# Altium footprint library ZLG_CandleLight_F072.PcbLib: 3 footprints
Each footprint in its own frame and in the unit in brackets; x right, y up, seen from the top. Pads: shape width x height; smd on the part's side, far side on the other; paste and mask are expansions set on the pad; w line width, h text height; cw(c..) or ccw(c..) is an arc to the next point about the centre after c.
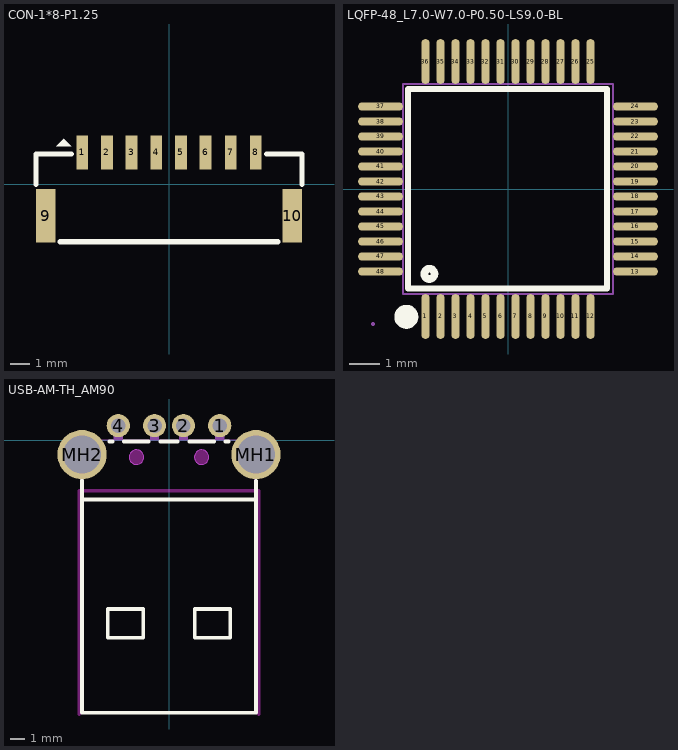
[diagram p0: the footprints below, top view; thin cyan lines are the x and y axes]

## CON-1*8-P1.25 [mm]
pads (10):
  rect 0.6x1.7 smd paste+0 mask+0.05: 1(-4.395,1.6) 2(-3.145,1.6) 3(-1.895,1.6) 4(-0.645,1.6) 5(0.605,1.6) 6(1.855,1.6) 7(3.125,1.6) 8(4.395,1.6)
  rect 1x2.7 smd paste+0 mask+0.05: 9(-6.245,-1.6) 10(6.245,-1.6)
Top Overlay:
  region: -5.334,2.286 -5.715,1.905 -4.953,1.905
  lines w0.254: -6.731,-0.019 -6.731,1.524 -4.926,1.524 ; -5.514,-2.921 5.514,-2.921 ; 4.926,1.524 6.731,1.524 6.731,-0.019
3D body "A12514WR-S-08P.SLDPRT": height 4.26, standoff 0, extent -6.625,-2.731 6.625,2.129

## LQFP-48_L7.0-W7.0-P0.50-LS9.0-BL [mm]
pads (48):
  oval 0.27x1.5 smd paste+0 mask+0.05: 1(-2.75,-4.25) 2(-2.25,-4.25) 3(-1.75,-4.25) 4(-1.25,-4.25) 5(-0.75,-4.25) 6(-0.25,-4.25) 7(0.25,-4.25) 8(0.75,-4.25) 9(1.25,-4.25) 10(1.75,-4.25) 11(2.25,-4.25) 12(2.75,-4.25) 25(2.75,4.25) 26(2.25,4.25) 27(1.75,4.25) 28(1.25,4.25) 29(0.75,4.25) 30(0.25,4.25) 31(-0.25,4.25) 32(-0.75,4.25) 33(-1.25,4.25) 34(-1.75,4.25) 35(-2.25,4.25) 36(-2.75,4.25)
  oval 1.5x0.27 smd paste+0 mask+0.05: 13(4.25,-2.75) 14(4.25,-2.25) 15(4.25,-1.75) 16(4.25,-1.25) 17(4.25,-0.75) 18(4.25,-0.25) 19(4.25,0.25) 20(4.25,0.75) 21(4.25,1.25) 22(4.25,1.75) 23(4.25,2.25) 24(4.25,2.75) 37(-4.25,2.75) 38(-4.25,2.25) 39(-4.25,1.75) 40(-4.25,1.25) 41(-4.25,0.75) 42(-4.25,0.25) 43(-4.25,-0.25) 44(-4.25,-0.75) 45(-4.25,-1.25) 46(-4.25,-1.75) 47(-4.25,-2.25) 48(-4.25,-2.75)
Top Overlay:
  circle w0.254: c-2.62,-2.83 r0.17
  lines w0.2: -2.896,3.34 3.302,3.34 3.302,-3.315 -3.327,-3.315 -3.327,3.34 -2.565,3.34
  lines w0.4: -3.39,-4.06 ccw(c-3.389,-4.26) -3.387,-4.06
Mechanical 15:
  drawing of 101 lines, arcs and shapes, not listed
3D body "STM32F072.STEP": height 1.45, standoff 0, extent -4.5,-4.5 4.5,4.5

## USB-AM-TH_AM90 [mm]
pads (6):
  round 1.6 hole 1: 1(3.5,1) 2(1,1) 3(-1,1) 4(-3.5,1)
  round 3.4 hole 2.6: MH1(6,-1) MH2(-6,-1)
Top Overlay:
  lines w0.254: -6.007,-4.098 6.006,-4.098 ; -6.007,-2.792 -6.007,-18.812 6.006,-18.812 6.006,-2.798 ; -4.117,-0.098 -3.899,-0.098 ; -3.102,-0.098 -1.398,-0.098 ; -0.602,-0.098 0.601,-0.098 ; 1.398,-0.098 3.102,-0.098 ; 3.898,-0.098 4.116,-0.098 ; -4.216,-13.649 -1.769,-13.649 -1.769,-11.649 -4.216,-11.649 -4.216,-13.649 ; 1.768,-13.649 4.23,-13.649 4.23,-11.649 1.768,-11.649 1.768,-13.649
Keep-Out Layer:
  board cut-out: 2.75,-1.175 2.75,-1.274 2.674,-1.458 2.533,-1.599 2.349,-1.675 2.15,-1.675 1.967,-1.599 1.826,-1.458 1.75,-1.274 1.75,-1.175 1.75,-1.076 1.826,-0.892 1.967,-0.751 2.15,-0.675 2.349,-0.675 2.533,-0.751 2.674,-0.892 2.75,-1.076
  board cut-out: -1.75,-1.175 -1.75,-1.274 -1.826,-1.458 -1.967,-1.599 -2.151,-1.675 -2.35,-1.675 -2.533,-1.599 -2.674,-1.458 -2.75,-1.274 -2.75,-1.175 -2.75,-1.076 -2.674,-0.892 -2.533,-0.751 -2.35,-0.675 -2.151,-0.675 -1.967,-0.751 -1.826,-0.892 -1.75,-1.076
Keep-Out Layer:
  circle w0.005: c2.25,-1.175 r0.5
  circle w0.005: c-2.25,-1.175 r0.5
  region: 2.75,-1.175 2.75,-1.274 2.674,-1.458 2.533,-1.599 2.349,-1.675 2.15,-1.675 1.967,-1.599 1.826,-1.458 1.75,-1.274 1.75,-1.175 1.75,-1.076 1.826,-0.892 1.967,-0.751 2.15,-0.675 2.349,-0.675 2.533,-0.751 2.674,-0.892 2.75,-1.076
  region: -1.75,-1.175 -1.75,-1.274 -1.826,-1.458 -1.967,-1.599 -2.151,-1.675 -2.35,-1.675 -2.533,-1.599 -2.674,-1.458 -2.75,-1.274 -2.75,-1.175 -2.75,-1.076 -2.674,-0.892 -2.533,-0.751 -2.35,-0.675 -2.151,-0.675 -1.967,-0.751 -1.826,-0.892 -1.75,-1.076
  lines w0.254: -6.2,-3.5 6.2,-3.5 ; -6.2,-3.5 -6.2,-18.9 -6.2,-3.5 ; -6.2,-3.5 6.2,-3.5 ; 6.2,-3.5 6.2,-18.9 6.2,-3.5
Mechanical 1:
  circle w0.005: c2.25,-1.175 r0.5
  circle w0.005: c-2.25,-1.175 r0.5
Mechanical 15:
  region: -6.068,-2.025 -6.068,0.025 -5.868,0.025 -5.868,-2.025
  region: 5.732,-2.025 5.732,0.025 5.932,0.025 5.932,-2.025
  region: -3.8,0.95 -3.8,1.05 -3.2,1.05 -3.2,0.95
  region: -1.3,0.95 -1.3,1.05 -0.7,1.05 -0.7,0.95
  region: 0.7,0.95 0.7,1.05 1.3,1.05 1.3,0.95
  region: 3.2,0.95 3.2,1.05 3.8,1.05 3.8,0.95
  region: -3.805,0.017 -3.805,1.217 -3.195,1.217 -3.195,0.017
  region: -1.305,0.02 -1.305,1.22 -0.695,1.22 -0.695,0.02
  region: 0.696,0.018 0.696,1.218 1.306,1.218 1.306,0.018
  region: 3.195,0.019 3.195,1.219 3.805,1.219 3.805,0.019
  lines w0.051: -6.068,-18.779 -6.068,0.021 5.932,0.021 5.932,-18.779 -6.068,-18.779
3D body "AM90_USB-A.STEP": height 4.22, standoff -1.49, extent -6.249,-18.775 6.249,1.075